# Altium schematic symbol library DataAcquisitonBoard.SchLib: 33 symbols
Pins are listed as number, name and electrical type; pins without a type are passive.

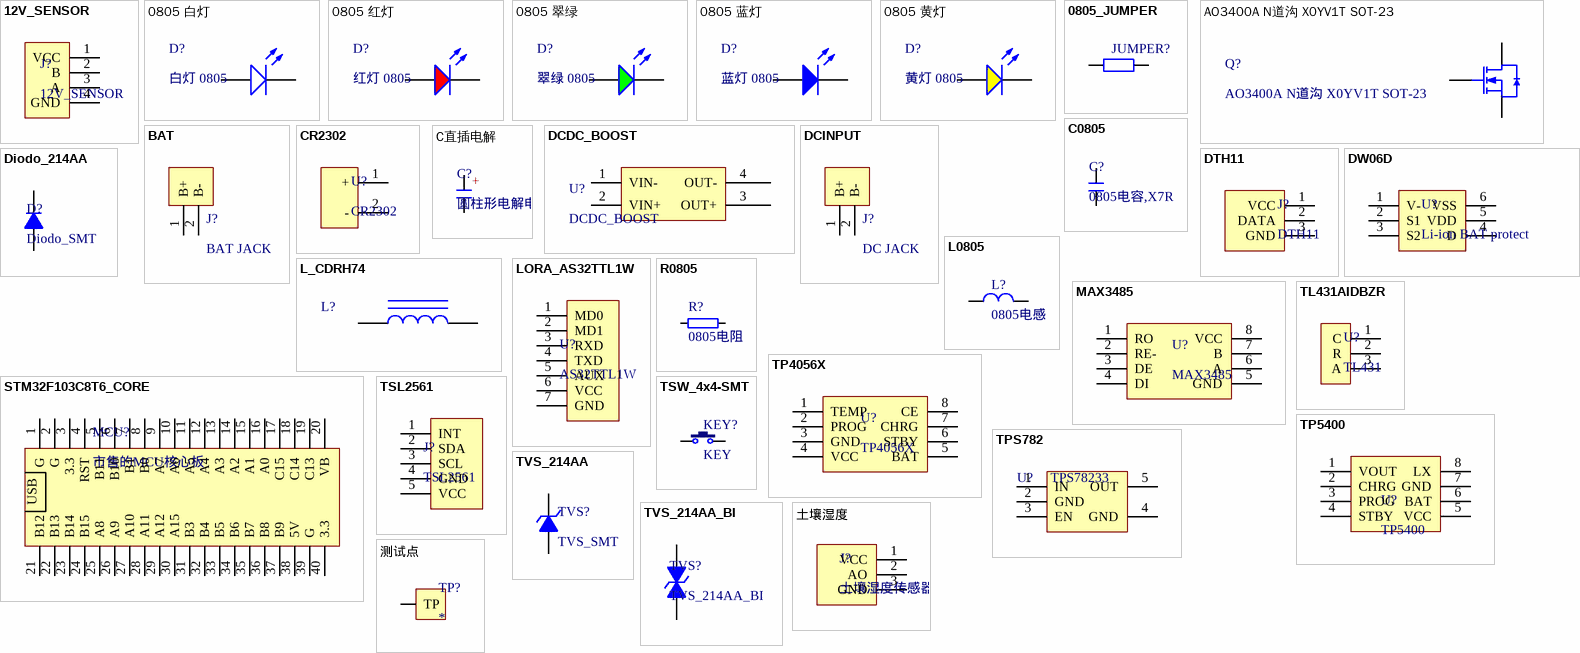
[diagram p0: symbols 12V_SENSOR to 测试点]

## 12V_SENSOR
designator J?
12V传感器接口 包括 12V GND 485
footprint XH2.54-LI-4P (接插件，4P)
pins: 1 VCC, 2 B, 3 A, 4 GND

## 0805 白灯
designator D?, comment 白灯 0805
发光二极管; ComponentLink1Description: 供应商链接; ComponentLink1URL: http://www.szlcsc.com/product/details_35468.html; Package: 0805; Supplier: LC; SuppliersPartNumber: C34499
footprint 0805_LED_S1
pins: A, K

## 0805 红灯
designator D?, comment 红灯 0805
发光二极管; ComponentLink1Description: 供应商链接; ComponentLink1URL: http://www.szlcsc.com/product/details_2668.html; Package: 0805; Supplier: LC; SuppliersPartNumber: C2295
footprint 0805_LED_S1
pins: A, K

## 0805 翠绿
designator D?, comment 翠绿 0805
发光二极管; ComponentLink1Description: 供应商链接; ComponentLink1URL: http://www.szlcsc.com/product/details_2670.html; Package: 0805; Supplier: LC; SuppliersPartNumber: C2297
footprint 0805_LED_S1
pins: A, K

## 0805 蓝灯
designator D?, comment 蓝灯 0805
发光二极管; ComponentLink1Description: 供应商链接; ComponentLink1URL: http://www.szlcsc.com/product/details_2666.html; Package: 0805; Supplier: LC; SuppliersPartNumber: C2293
footprint 0805_LED_S1
pins: A, K

## 0805 黄灯
designator D?, comment 黄灯 0805
发光二极管; ComponentLink1Description: 供应商链接; ComponentLink1URL: http://www.szlcsc.com/product/details_2669.html; Package: 0805; Supplier: LC; SuppliersPartNumber: C2296
footprint 0805_LED_S1
pins: A, K

## 0805_JUMPER
designator JUMPER?
0805大小的跳线; ComponentLink1Description: 供应商链接; ComponentLink1URL: http://www.szlcsc.com/product/details_18165.html; Package: 0805; Supplier: LC; SuppliersPartNumber: C17477
footprint JUMPER
pins: 1, 2

## AO3400A N道沟 X0YV1T SOT-23
designator Q?
MOS(场效应管); ComponentLink1Description: 供应商链接; ComponentLink1URL: http://www.szlcsc.com/product/details_21629.html; Package: SOT-23; Supplier: LC; SuppliersPartNumber: C20917
footprint SOT-23(SOT-23-3)
pins: 1 G, 2 S, 3 D

## BAT
designator J?, comment BAT JACK
电池接口
footprint XH2.54-LI-2P (接插件，2P)
pins: 1 B+, 2 B-

## C0805
designator C?, comment 0805电容,X7R
footprint 0805_C
pins: 1, 2

## CR2302
designator U?
CR2302 3V电池
footprint CR2032_A (纽扣电池座)
pins: 1 +, 2 -

## C直插电解
designator C?, comment 圆柱形电解电容
footprint CAP 2.5*6.3*11.2 (脚距2.5mm直径6.3mm高度11.2mm)
pins: 1, 2
text: +

## DCDC_BOOST
designator U?
footprint BOOSTER (DCDC升压模块)
pins: 1 VIN-, 2 VIN+, 3 OUT+, 4 OUT-

## DCINPUT
designator J?, comment DC JACK
DC充电输入接口
footprint XH2.54-LI-2P (接插件，2P)
pins: 1 B+, 2 B-

## Diodo_214AA
designator D?, comment Diodo_SMT
Diodo diode
footprint SMB(DO-214AA)_S1
pins: 1 A, 2 K

## DTH11
designator J?
数字式温湿度传感器
footprint XH2.54-LI-3P (接插件，3P)
pins: 1 VCC, 2 DATA, 3 GND

## DW06D
designator U?, comment Li-ion BAT protect
二合一锂离子电池保护芯片
footprint SOT-23-6
pins: 1 V-, 2 S1, 3 S2, 4 D, 5 VDD, 6 VSS

## L0805
designator L?, comment 0805电感
footprint 0805_L
pins: 1, 2

## L_CDRH74
designator L?
CDRH74贴片电感; ComponentLink1Description: 供应商链接; ComponentLink1URL: http://www.szlcsc.com/product/details_33340.html; Package: 0805; Supplier: LC; SuppliersPartNumber: C32375
footprint CDRH74 (7.3*7.3*4.5mm（长宽高）)
pins: 1, 2

## LORA_AS32TTL1W
designator U?, comment AS32TTL1W
1W LORA无线串口
footprint LORA (AS32-TTL-1W)
pins: 1 MD0, 2 MD1, 3 RXD, 4 TXD, 5 AUX, 6 VCC, 7 GND

## MAX3485
designator U?
3.3V供电带关断485半双工收发器
footprint SOIC-8_150mil
pins: 1 RO, 2 RE-, 3 DE, 4 DI, 5 GND, 6 A, 7 B, 8 VCC

## R0805
designator R?, comment 0805电阻
footprint 0805_R
pins: 1, 2

## STM32F103C8T6_CORE
designator MCU?, comment 市售的MCU核心板
footprint STM32F103C8T6_CORE (STM32F103C8T6核心板)
pins: 1 G, 2 G, 3 3.3, 4 RST, 5 B11, 6 B10, 7 B1, 8 B0, 9 A7, 10 A6, 11 A5, 12 A4, 13 A3, 14 A2, 15 A1, 16 A0, 17 C15, 18 C14, 19 C13, 20 VB, 21 B12, 22 B13, 23 B14, 24 B15, 25 A8, 26 A9, 27 A10, 28 A11, 29 A12, 30 A15, 31 B3, 32 B4, 33 B5, 34 B6, 35 B7, 36 B8, 37 B9, 38 5V, 39 G, 40 3.3
text: USB

## TL431AIDBZR
designator U?, comment TL431
德州仪器TL431 非国产TL431
footprint SOT-23(SOT-23-3)
pins: 1 C, 2 R, 3 A

## TP4056X
designator U?
防反接锂电池充电管理IC
footprint SOIC-8_150mil
pins: 1 TEMP, 2 PROG, 3 GND, 4 VCC, 5 BAT, 6 STBY, 7 CHRG, 8 CE

## TP5400
designator U?
2 in 1 charger + 5v booster
footprint SOIC-8_150mil
pins: 1 VOUT, 2 CHRG, 3 PROG, 4 STBY, 5 VCC, 6 BAT, 7 GND, 8 LX

## TPS782
designator U?, comment TPS78233
Regulator_SMT; BOM名称: 可调升压芯片; 版权归属: 源创客; 学习资源: www.ooocke.com
footprint SOT-23-5
pins: 1 IN, 2 GND, 3 EN, 4 GND, 5 OUT

## TSL2561
designator J?
IIC总线光强传感器模块 已经集成IIC上拉电阻
footprint XH2.54-LI-5P (接插件，5P)
pins: 1 INT, 2 SDA, 3 SCL, 4 GND, 5 VCC

## TSW_4x4-SMT
designator KEY?, comment KEY
Tact Switch
footprint TSW SMD-4*4*1.5 (轻触开关，长宽高：4*4*1.5mm)
pins: 1, 2

## TVS_214AA
designator TVS?, comment TVS_SMT
TVS diode
footprint SMB(DO-214AA)_S1
pins: 1 A, 2 K

## TVS_214AA_BI
designator TVS?
双向TVS 214AA封装
footprint SMB(DO-214AA)_S1
pins: 1 A, 2 K

## 土壤湿度
designator J?, comment 土壤湿度传感器
footprint XH2.54-LI-3P (接插件，3P)
pins: 1 VCC, 2 AO, 3 GND

## 测试点
designator TP?
footprint TestPoint
pins: 1 TP